# Altium footprint library Display.PcbLib: 10 footprints
Each footprint in its own frame and in the unit in brackets; x right, y up, seen from the top. Pads: shape width x height; smd on the part's side, far side on the other; paste and mask are expansions set on the pad; w line width, h text height; cw(c..) or ccw(c..) is an arc to the next point about the centre after c.
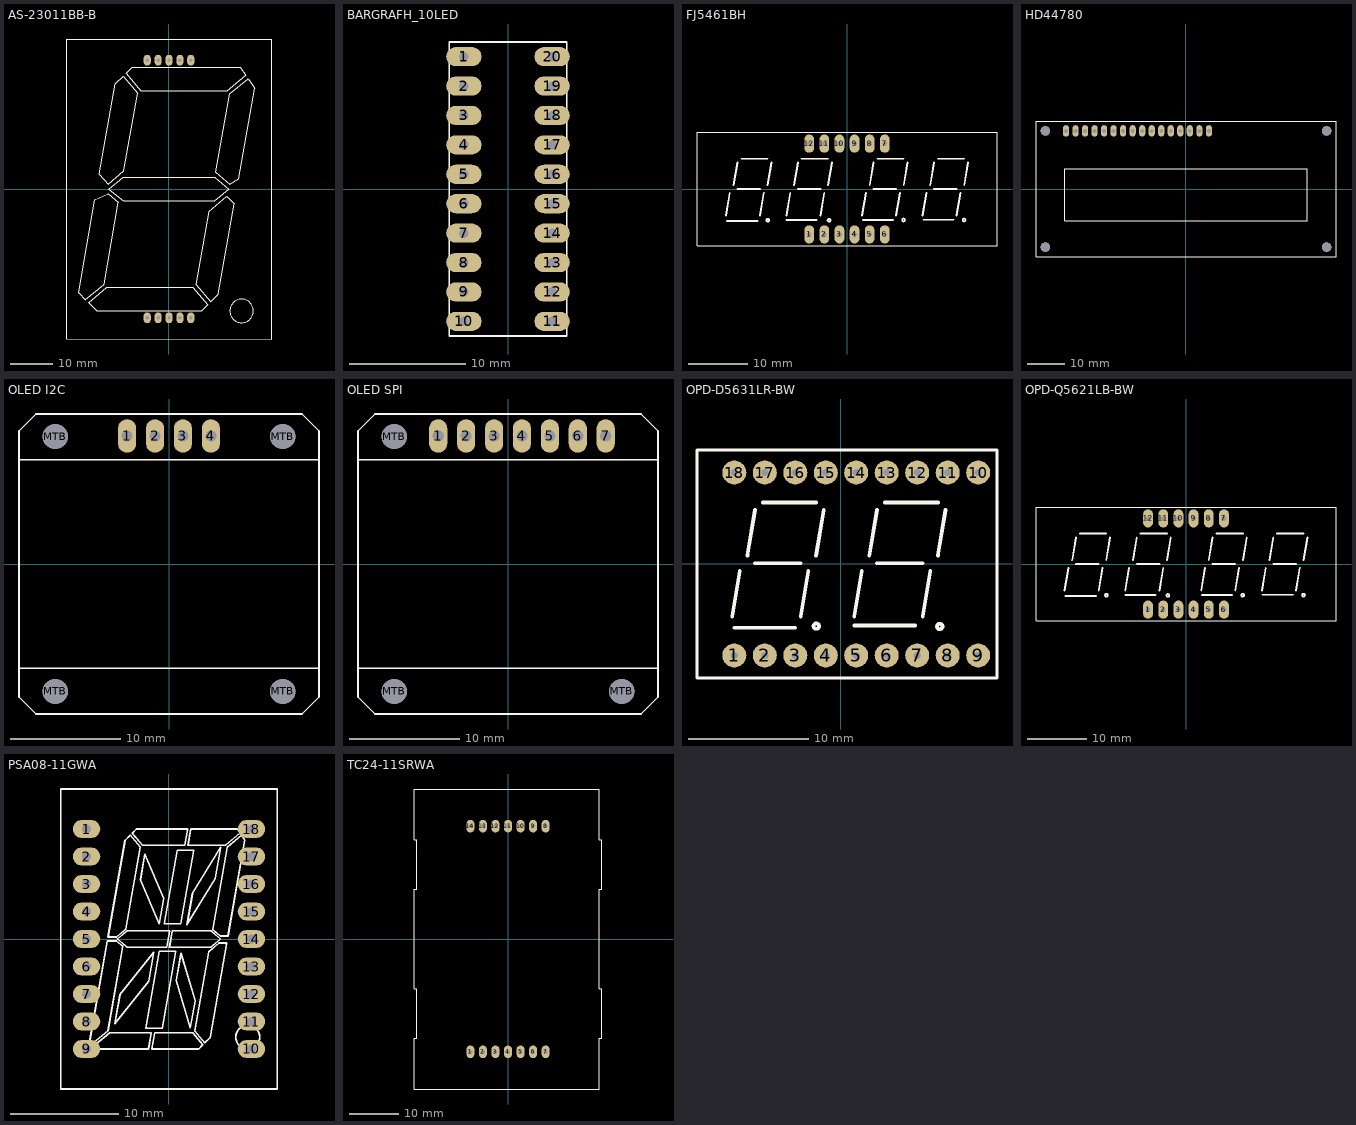
[diagram p0: the footprints below, top view; thin cyan lines are the x and y axes]

## AS-23011BB-B [mil]
height 472.44
pads (10):
  oval 65x100 hole 31.5: 1(-200,-1183.07) 2(-100,-1183.07) 3(0,-1183.07) 4(100,-1183.07) 5(200,-1183.07) 6(200,1183.07) 7(100,1183.07) 8(0,1183.07) 9(-100,1183.07) 10(-200,1183.07)
Top Overlay:
  circle w6: c667.27,-1120.08 r108.27
  lines w6: -944.88,1377.95 944.89,1377.96 944.88,-1377.95 -944.87,-1377.94 -944.88,1377.95 ; -830.77,-953.05 -679.9,-97.41 -558.49,-45.26 -464.71,-123.96 -596.85,-873.39 -767.36,-1016.46 -830.77,-953.05 ; -739.42,-1044.4 -663.74,-1120.08 300.93,-1120.08 355.53,-1065.48 219.65,-903.54 -571.55,-903.54 -739.42,-1044.4 ; -638.65,136.56 -492.22,966.97 -421.66,1037.53 -287.99,878.24 -413.4,167 -560.28,43.76 -638.65,136.56 ; -551.18,0 -422.15,108.27 422.15,108.27 551.18,0 422.15,-108.27 -422.15,-108.27 -551.18,0 ; -393.71,1065.48 -339.11,1120.08 652.44,1120.08 703.88,1046.62 533.37,903.54 -257.83,903.54 -393.71,1065.48 ; 249.81,-878.24 383.48,-1037.53 454.04,-966.97 600.6,-135.84 531.58,-67.84 368.59,-204.6 249.81,-878.24 ; 431.45,151.86 559.76,44.2 641.18,94.33 787.93,926.58 726.54,1014.24 558.67,873.39 431.45,151.86
3D body: height 472.44, standoff -157.48, extent -944.87,-1377.94 944.89,1377.96

## BARGRAFH_10LED [mil]
pads (20):
  oval 120x65 hole 32: 1(-150,450) 2(-150,350) 3(-150,250) 4(-150,150) 5(-150,50) 6(-150,-50) 7(-150,-150) 8(-150,-250) 9(-150,-350) 10(-150,-450) 11(150,-450) 12(150,-350) 13(150,-250) 14(150,-150) 15(150,-50) 16(150,50) 17(150,150) 18(150,250) 19(150,350) 20(150,450)
Top Overlay:
  lines w6: -200,-500 -200,500 200,500 200,-500 0,-500 -200,-500
3D body: height 267.72, standoff -275.59, extent -200,-500 200,500

## FJ5461BH [mil]
pads (12):
  oval 65x120 hole 32: 1(-250,-300) 2(-150,-300) 3(-50,-300) 4(50,-300) 5(150,-300) 6(250,-300) 7(250,300) 8(150,300) 9(50,300) 10(-50,300) 11(-150,300) 12(-250,300)
Top Overlay:
  circle w12: c774,-205 r9
  circle w12: c374,-205 r9
  circle w12: c-119,-207 r9
  circle w12: c-524,-206 r9
  lines w5: -992.13,-374.84 -992.13,375 992.13,375 992.13,-374.84 -992.13,-374.84
  lines w12: -800,-175 -775,-25 ; -793,-211 -593,-211 ; -750,25 -725,175 ; -725,0 -575,0 ; -700,200 -525,200 ; -575,-175 -550,-25 ; -525,25 -500,175 ; -400,-204 -200,-204 ; -400,-175 -375,-25 ; -350,25 -325,175 ; -325,0 -175,0 ; -300,200 -125,200 ; -175,-175 -150,-25 ; -125,25 -100,175 ; 100,-175 125,-25 ; 105,-205 305,-205 ; 150,25 175,175 ; 175,0 325,0 ; 200,200 375,200 ; 325,-175 350,-25 ; 375,25 400,175 ; 500,-175 525,-25 ; 505,-203 705,-203 ; 550,25 575,175 ; 575,0 725,0 ; 600,200 775,200 ; 725,-175 750,-25 ; 775,25 800,175
3D body: height 314.96, standoff -244.09, extent -992.12,-374.01 992.13,374.02

## HD44780 [mil]
pads (20):
  oval 65x120 hole 40: 1(-1259.84,610.24) 2(-1159.84,610.24) 3(-1059.84,610.24) 4(-959.84,610.24) 5(-859.84,610.24) 6(-759.84,610.24) 7(-659.84,610.24) 8(-559.84,610.24) 9(-459.84,610.24) 10(-359.84,610.24) 11(-259.84,610.24) 12(-159.84,610.24) 13(-59.84,610.24) 14(40.16,610.24) 15(140.16,610.24) 16(240.16,610.24)
  round 99 hole 99: MTB(-1476.38,-610.24) MTB(-1476.38,610.24) MTB(1476.38,-610.24) MTB(1476.38,610.24)
Top Overlay:
  lines w0: -1271.65,-330.71 -1271.65,212.6 1271.65,212.6 1271.65,-330.71 -1271.65,-330.71
  lines w8: -1574.8,-708.65 -1574.8,708.67 1574.81,708.67 1574.81,-708.65 -1574.8,-708.65
3D body: height 330.71, standoff 0, extent -1311.03,559.05 291.34,659.45
3D body: height 814.96, standoff 94.49, extent -1574.79,-708.65 1574.81,708.67

## OLED I2C [mil]
pads (8):
  oval 65x120 hole 40: 1(-150,458.66) 2(-50,458.66) 3(50,458.66) 4(150,458.66)
  round 90 hole 90: MTB(-407.48,-456.69) MTB(-407.48,456.69) MTB(407.48,-456.69) MTB(407.48,456.69)
Top Overlay:
  lines w6: -537.4,-374.02 537.4,-374.02 ; -537.4,374.02 537.4,374.02 ; -537.4,-476.38 -537.4,476.38 -476.38,537.4 476.38,537.4 537.4,476.38 537.4,-476.38 476.38,-537.4 -476.38,-537.4 -537.4,-476.38

## OLED SPI [mil]
pads (10):
  oval 65x120 hole 40: 1(-250,458.66) 2(-150,458.66) 3(-50,458.66) 4(50,458.66) 5(150,458.66) 6(250,458.66) 7(350,458.66)
  round 90 hole 90: MTB(-407.48,-456.69) MTB(-407.48,456.69) MTB(407.48,-456.69)
Top Overlay:
  lines w6: -537.4,-374.02 537.4,-374.02 ; -537.4,374.02 537.4,374.02 ; -537.4,-476.38 -476.38,-537.4 476.38,-537.4 537.4,-476.38 537.4,476.38 476.38,537.4 -476.38,537.4 -537.4,476.38 -537.4,-476.38

## OPD-D5631LR-BW [mm]
pads (18):
  round 2 hole 0.6: 1(-8.89,-7.62) 2(-6.35,-7.62) 3(-3.81,-7.62) 4(-1.27,-7.62) 5(1.27,-7.62) 6(3.81,-7.62) 7(6.35,-7.62) 8(8.89,-7.62) 9(11.43,-7.62) 10(11.43,7.62) 11(8.89,7.62) 12(6.35,7.62) 13(3.81,7.62) 14(1.27,7.62) 15(-1.27,7.62) 16(-3.81,7.62) 17(-6.35,7.62) 18(-8.89,7.62)
Top Layer:
  lines w0.25: -9.525,-7.95 -9.474,-7.95
Top Overlay:
  circle w0.305: c-2.057,-5.182 r0.229
  circle w0.305: c8.23,-5.207 r0.229
  lines w0.25: -12,-9.5 13,-9.5 13,9.5 -12,9.5 -12,-9.5
  lines w0.305: -9.068,-4.394 -8.433,-0.584 ; -8.89,-5.309 -3.81,-5.309 ; -7.798,0.686 -7.163,4.496 ; -7.163,0.051 -3.353,0.051 ; -6.528,5.131 -2.083,5.131 ; -3.353,-4.394 -2.718,-0.584 ; -2.083,0.686 -1.448,4.496 ; 1.092,-5.131 6.172,-5.131 ; 1.092,-4.394 1.727,-0.584 ; 2.362,0.686 2.997,4.496 ; 2.997,0.051 6.807,0.051 ; 3.632,5.131 8.077,5.131 ; 6.807,-4.394 7.442,-0.584 ; 8.077,0.686 8.712,4.496
3D body: height 8, standoff -4, extent -11.227,-8.511 13.773,8.509

## OPD-Q5621LB-BW [mil]
pads (12):
  oval 65x120 hole 32: 1(-250,-300) 2(-150,-300) 3(-50,-300) 4(50,-300) 5(150,-300) 6(250,-300) 7(250,300) 8(150,300) 9(50,300) 10(-50,300) 11(-150,300) 12(-250,300)
Top Overlay:
  circle w12: c774,-205 r9
  circle w12: c374,-205 r9
  circle w12: c-119,-207 r9
  circle w12: c-524,-206 r9
  lines w5: -988.19,-374.84 -988.19,375 988.19,375 988.19,-374.84 -988.19,-374.84
  lines w12: -800,-175 -775,-25 ; -793,-211 -593,-211 ; -750,25 -725,175 ; -725,0 -575,0 ; -700,200 -525,200 ; -575,-175 -550,-25 ; -525,25 -500,175 ; -400,-204 -200,-204 ; -400,-175 -375,-25 ; -350,25 -325,175 ; -325,0 -175,0 ; -300,200 -125,200 ; -175,-175 -150,-25 ; -125,25 -100,175 ; 100,-175 125,-25 ; 105,-205 305,-205 ; 150,25 175,175 ; 175,0 325,0 ; 200,200 375,200 ; 325,-175 350,-25 ; 375,25 400,175 ; 500,-175 525,-25 ; 505,-203 705,-203 ; 550,25 575,175 ; 575,0 725,0 ; 600,200 775,200 ; 725,-175 750,-25 ; 775,25 800,175
3D body: height 314.96, standoff -244.09, extent -992.12,-374.01 992.13,374.02

## PSA08-11GWA [mil]
height 334.65
pads (18):
  oval 100x65 hole 31.5: 1(-300,400) 2(-300,300) 3(-300,200) 4(-300,100) 5(-300,0) 6(-300,-100) 7(-300,-200) 8(-300,-300) 9(-300,-400) 10(300,-400) 11(300,-300) 12(300,-200) 13(300,-100) 14(300,0) 15(300,100) 16(300,200) 17(300,300) 18(300,400)
Top Overlay:
  circle w6: c286.36,-356.69 r43.31
  lines w6: -393.69,545.47 -393.69,-545.46 393.7,-545.46 393.7,545.48 -393.69,545.48 ; -287.48,-365.2 -274.85,-377.83 -221.9,-333.4 -167.78,-26.42 -190.64,-7.23 -224.36,-7.23 -287.48,-365.2 ; -267.86,-384.82 -215.58,-340.94 -63.93,-340.94 -74.35,-400 -252.68,-400 -267.86,-384.82 ; -221.79,7.35 -190.5,7.35 -156.84,35.59 -104.12,334.62 -140.35,377.8 -159.92,358.24 -221.79,7.35 ; -196.97,-307.9 -73.99,-153.72 -55.42,-48.38 -178.39,-202.57 -196.97,-307.9 ; -187.01,0 -151.82,-29.53 -8.08,-29.53 2.33,29.53 -151.82,29.53 -187.01,0 ; -133.37,384.79 -96.58,340.94 57.18,340.94 67.59,400 -118.16,400 -133.37,384.79 ; -103.88,215.9 -87.52,308.66 -18.98,147.89 -35.33,55.13 -103.88,215.9 ; -84.81,-325.17 -24.84,-325.17 24.63,-44.57 -35.33,-44.57 -84.81,-325.17 ; -62.35,-400 107.74,-400 122.95,-384.79 86.16,-340.94 -51.94,-340.94 -62.35,-400 ; -17.75,55.13 42.21,55.13 89.49,323.24 29.52,323.24 -17.75,55.13 ; 1.91,-29.53 12.33,29.53 151.82,29.53 187.01,0 151.82,-29.53 1.91,-29.53 ; 26.42,-150.39 43.81,-51.74 94.85,-224.4 77.46,-323.05 26.42,-150.39 ; 65.32,51.66 85.34,165.15 188.02,333.95 168.01,220.45 65.32,51.66 ; 69.17,340.94 79.58,400 247.87,400 258.11,385.37 205.16,340.94 69.17,340.94 ; 93.7,-334.62 129.94,-377.8 149.5,-358.24 210.1,-14.59 181.87,-14.59 144.62,-45.85 93.7,-334.62 ; 158.7,34.03 186.36,10.82 214.58,10.82 276.09,359.69 263.78,377.28 211.49,333.4 158.7,34.03
3D body: height 334.65, standoff -157.48, extent -393.69,-545.46 393.71,545.48

## TC24-11SRWA [mil]
height 334.65
pads (14):
  oval 65x100 hole 31.5: 1(-300,-900) 2(-200,-900) 3(-100,-900) 4(0,-900) 5(100,-900) 6(200,-900) 7(300,-900) 8(300,900) 9(200,900) 10(100,900) 11(0,900) 12(-100,900) 13(-200,900) 14(-300,900)
Top Overlay:
  lines w6: -748.03,-1196.85 728.35,-1196.85 728.35,-791.34 748.03,-791.34 748.03,-397.64 728.35,-397.64 728.35,397.64 748.03,397.64 748.03,572.83 748.03,791.34 728.35,791.34 728.35,1196.85 -748.03,1196.85 -748.03,791.34 -728.35,791.34 -728.35,397.64 -748.03,397.64 -748.03,-397.64 -728.35,-397.64 -728.35,-791.34 -748.03,-791.34 -748.03,-1196.85
3D body: height 334.65, standoff -157.48, extent -748.03,-1196.85 748.03,1196.85